# EAGLE library part AP64060WU-7 (library AP64060WU-7)
Switching Voltage Regulators DCDC Conv HV Buck TSOT26(STD) T&R 3K Source: Datasheet <https://www.diodes.com/assets/Datasheets/AP64060.pdf>
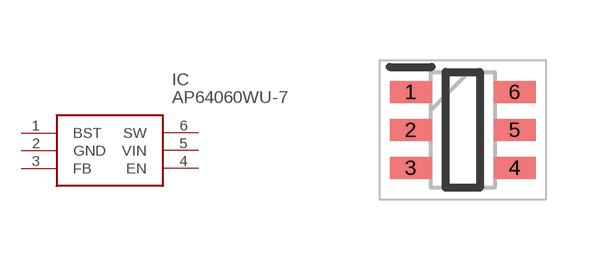
[diagram p0: symbol with the pads of SOT95P280X100-6N; footprint SOT95P280X100-6N]

Designator prefix IC

## AP64060WU-7 (Description: Switching Voltage Regulators DCDC Conv HV Buck TSOT26(STD) T&R 3K; Height: 1mm; Manufacturer_Name: Diodes Inc.; Manufacturer_Part_Number: AP64060WU-7; Mouser_Part_Number: 621-AP64060WU-7; Mouser_Price-Stock: https://www.mouser.co.uk/ProductDetail/Diodes-Incorporated/AP64060WU-7?qs=Li%252BoUPsLEntiZYjFw%252BCbiQ%3D%3D)  [SOT95P280X100-6N]
1  BST
2  GND
3  FB
4  EN
5  VIN
6  SW

## Footprint SOT95P280X100-6N (pad centres in mm)
TSOT26 AP62300
smd 1.05 x 0.55: 1 -1.3,0.95; 2 -1.3,0; 3 -1.3,-0.95; 4 1.3,-0.95; 5 1.3,0; 6 1.3,0.95